# Altium footprint library TLV493D.PcbLib: 1 footprints
Each footprint in its own frame and in the unit in brackets; x right, y up, seen from the top. Pads: shape width x height; smd on the part's side, far side on the other; paste and mask are expansions set on the pad; w line width, h text height; cw(c..) or ccw(c..) is an arc to the next point about the centre after c.
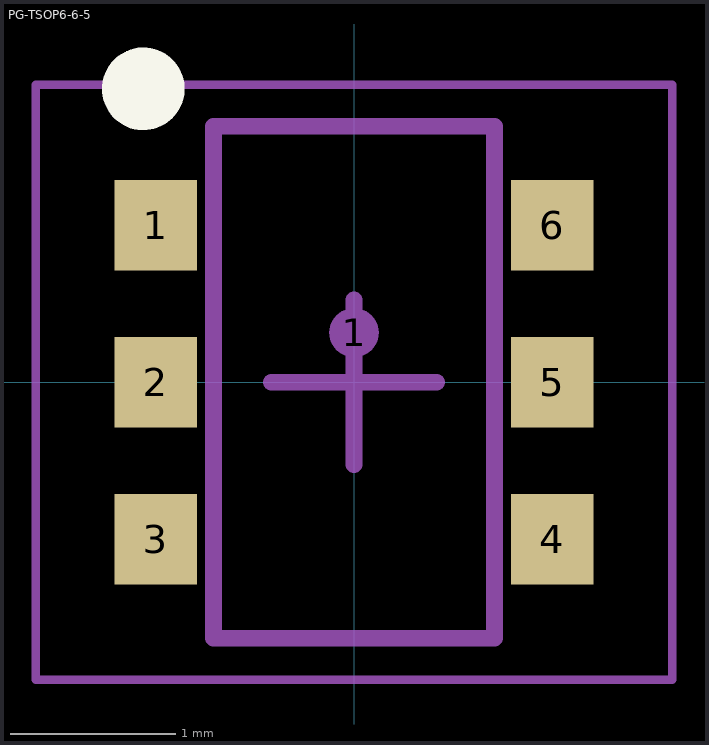
[diagram p0: the footprint, top view; thin cyan lines are the x and y axes]

## PG-TSOP6-6-5 [mm] "TSOP, 6-Leads, Body 2.90x1.60mm, Pitch https://www.infineon.com/cms/en/product/packages/PG-TSOP6/PG-TSOP6-6-5 IPC Medium Density"
height 1.1
pads (7):
  rect 0.5x0.55 smd: 1(-1.2,0.95) 2(-1.2,0) 3(-1.2,-0.95) 4(1.2,-0.95) 5(1.2,0) 6(1.2,0.95)
  round 0.3 on Mech15: 1(0,0.3)
Top Overlay:
  circle w0.25: c-1.275,1.775 r0.125
Mechanical 13:
  lines w0.1: -0.85,-1.55 -0.85,1.55 0.85,1.55 0.85,-1.55 -0.85,-1.55
Mechanical 15:
  lines w0.05: -1.925,-1.8 -1.925,1.8 1.925,1.8 1.925,-1.8 -1.925,-1.8
  lines w0.1: -0.5,0 0.5,0 ; 0,-0.5 0,0.5
3D body "User Library-TSOP-6.step": height 1, standoff 0, extent -1.35,-1.5 1.35,1.5